# EAGLE library part JDY-08 (library altro)
Bluetooth BLE 4.0 CC2541 Module
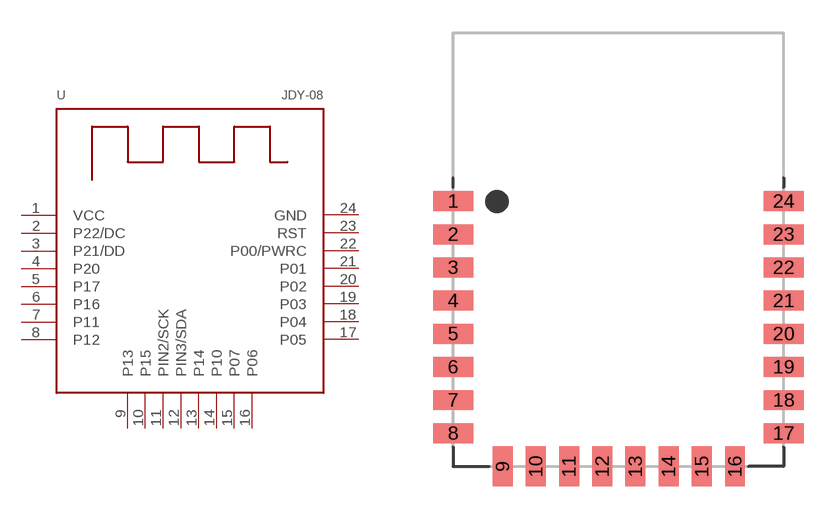
[diagram p2: symbol with the pads of JDY-08; footprint JDY-08]

Designator prefix U

## JDY-08  [JDY-08]
1  VCC
2  P22/DC
3  P21/DD
4  P20
5  P17
6  P16
7  P11
8  P12
9  P13
10  P15
11  PIN2/SCK
12  PIN3/SDA
13  P14
14  P10
15  P07
16  P06
17  P05
18  P04
19  P03
20  P02
21  P01
22  P00/PWRC
23  RST
24  GND

## Footprint JDY-08 (pad centres in mm)
smd 1.8 x 0.9: 1 -7.47,2.2; 2 -7.47,0.7; 3 -7.47,-0.8; 4 -7.47,-2.3; 5 -7.47,-3.8; 6 -7.47,-5.3; 7 -7.47,-6.8; 8 -7.47,-8.3; 17 7.47,-8.3; 18 7.47,-6.8; 19 7.47,-5.3; 20 7.47,-3.8; 21 7.47,-2.3; 22 7.47,-0.8; 23 7.47,0.7; 24 7.47,2.2
smd 0.9 x 1.8: 9 -5.23,-9.8; 10 -3.73,-9.8; 11 -2.23,-9.8; 12 -0.73,-9.8; 13 0.77,-9.8; 14 2.27,-9.8; 15 3.77,-9.8; 16 5.27,-9.8